# EAGLE library part PI3WVR13612?* (library PI3WVR13612ZLEX)
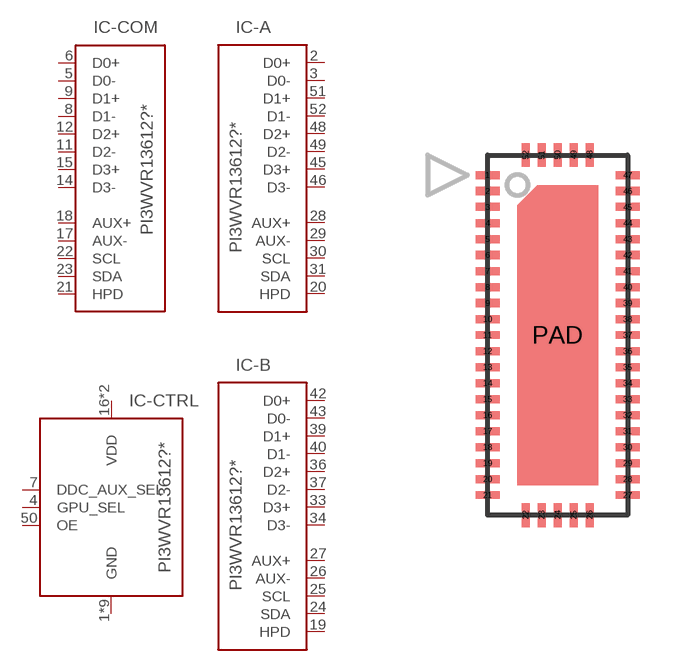
[diagram p0: symbol with the pads of TQFN52-0.4-3.5X9; footprint TQFN52-0.4-3.5X9]

Designator prefix IC; gates -COM=PI3WVR13612ZLEX-IN -A=PI3WVR13612ZLEX-OUT -B=PI3WVR13612ZLEX-OUT -CTRL=PI3WVR13612ZLEX-CTRL

## PI3WVR13612ZLEX (MF: Diodes Inc; MPN: PI3WVR13612ZLEX)  [TQFN52-0.4-3.5X9]
1  -CTRL:GND
2  -A:D0+
3  -A:D0-
4  -CTRL:GPU_SEL
5  -COM:D0-
6  -COM:D0+
7  -CTRL:DDC_AUX_SEL
8  -COM:D1-
9  -COM:D1+
10  -CTRL:GND
11  -COM:D2-
12  -COM:D2+
13  -CTRL:GND
14  -COM:D3-
15  -COM:D3+
16  -CTRL:VDD
17  -COM:AUX-
18  -COM:AUX+
19  -B:HPD
20  -A:HPD
21  -COM:HPD
22  -COM:SCL
23  -COM:SDA
24  -B:SDA
25  -B:SCL
26  -B:AUX-
27  -B:AUX+
28  -A:AUX+
29  -A:AUX-
30  -A:SCL
31  -A:SDA
32  -CTRL:GND
33  -B:D3+
34  -B:D3-
35  -CTRL:GND
36  -B:D2+
37  -B:D2-
38  -CTRL:GND
39  -B:D1+
40  -B:D1-
41  -CTRL:GND
42  -B:D0+
43  -B:D0-
44  -CTRL:VDD
45  -A:D3+
46  -A:D3-
47  -CTRL:GND
48  -A:D2+
49  -A:D2-
50  -CTRL:OE
51  -A:D1+
52  -A:D1-
PAD  -CTRL:GND

## Footprint TQFN52-0.4-3.5X9 (pad centres in mm)
smd 0.6 x 0.2: 1 -1.75,4; 2 -1.75,3.6; 3 -1.75,3.2; 4 -1.75,2.8; 5 -1.75,2.4; 6 -1.75,2; 7 -1.75,1.6; 8 -1.75,1.2; 9 -1.75,0.8; 10 -1.75,0.4; 11 -1.75,0; 12 -1.75,-0.4; 13 -1.75,-0.8; 14 -1.75,-1.2; 15 -1.75,-1.6; 16 -1.75,-2; 17 -1.75,-2.4; 18 -1.75,-2.8; 19 -1.75,-3.2; 20 -1.75,-3.6; 21 -1.75,-4; 27 1.75,-4; 28 1.75,-3.6; 29 1.75,-3.2; 30 1.75,-2.8; 31 1.75,-2.4; 32 1.75,-2; 33 1.75,-1.6; 34 1.75,-1.2; 35 1.75,-0.8; 36 1.75,-0.4; 37 1.75,0; 38 1.75,0.4; 39 1.75,0.8; 40 1.75,1.2; 41 1.75,1.6; 42 1.75,2; 43 1.75,2.4; 44 1.75,2.8; 45 1.75,3.2; 46 1.75,3.6; 47 1.75,4
smd 0.2 x 0.6: 22 -0.8,-4.5; 23 -0.4,-4.5; 24 0,-4.5; 25 0.4,-4.5; 26 0.8,-4.5; 48 0.8,4.5; 49 0.4,4.5; 50 0,4.5; 51 -0.4,4.5; 52 -0.8,4.5
smd 1 x 1: PAD 0,0